# EAGLE library part LM358 (library CaliBeta-IC_Analogicos)
Amplificador operacional dual de proposito general, Vmax:32V simple, ±16V dual Datasheet <http://www.ti.com/lit/ds/symlink/lm2904-n.pdf>
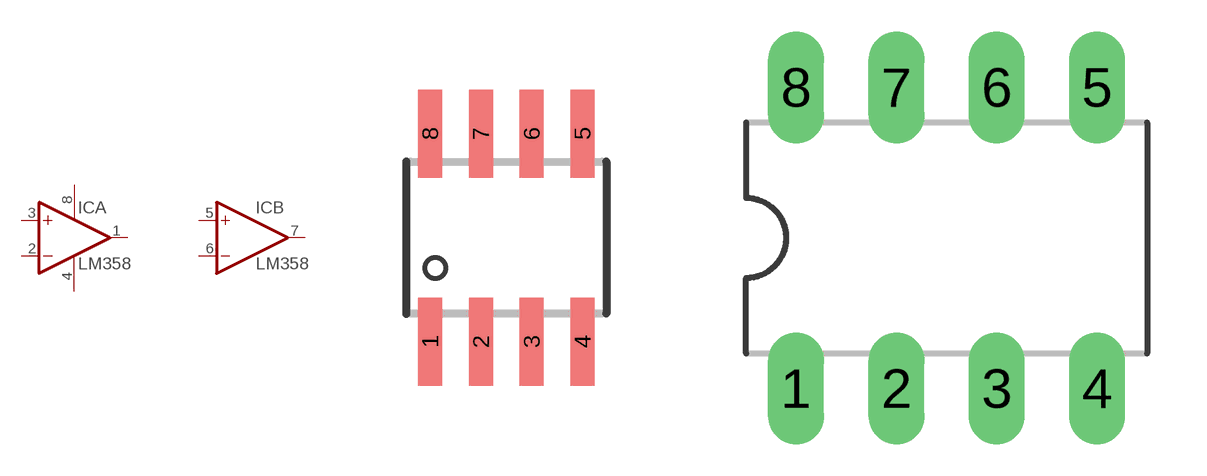
[diagram p0: symbol with the pads of SOIC-8; footprints SOIC-8, DIP-08]

Designator prefix IC; gates A=OPAMP B=OPAMP P=PWR+-

## LM358D  [SOIC-8]
1  A:OUT  out
2  A:-IN  in
3  A:+IN  in
4  P:V-  pwr
5  B:+IN  in
6  B:-IN  in
7  B:OUT  out
8  P:V+  pwr

## LM358N  [DIP-08]
Pads as for SOIC-8

## Footprint SOIC-8 (pad centres in mm)
smd 0.6 x 2.2: 1 -1.905,-2.6; 2 -0.635,-2.6; 3 0.635,-2.6; 4 1.905,-2.6; 5 1.905,2.6; 6 0.635,2.6; 7 -0.635,2.6; 8 -1.905,2.6

## Footprint DIP-08 (pad centres in mm)
drill 0.75 pad 1.422 long: 1 -3.81,-3.81; 2 -1.27,-3.81; 3 1.27,-3.81; 4 3.81,-3.81; 5 3.81,3.81; 6 1.27,3.81; 7 -1.27,3.81; 8 -3.81,3.81